# Altium footprint library Bootcamp PcbLib.PcbLib: 16 footprints
Each footprint in its own frame and in the unit in brackets; x right, y up, seen from the top. Pads: shape width x height; smd on the part's side, far side on the other; paste and mask are expansions set on the pad; w line width, h text height; cw(c..) or ccw(c..) is an arc to the next point about the centre after c.
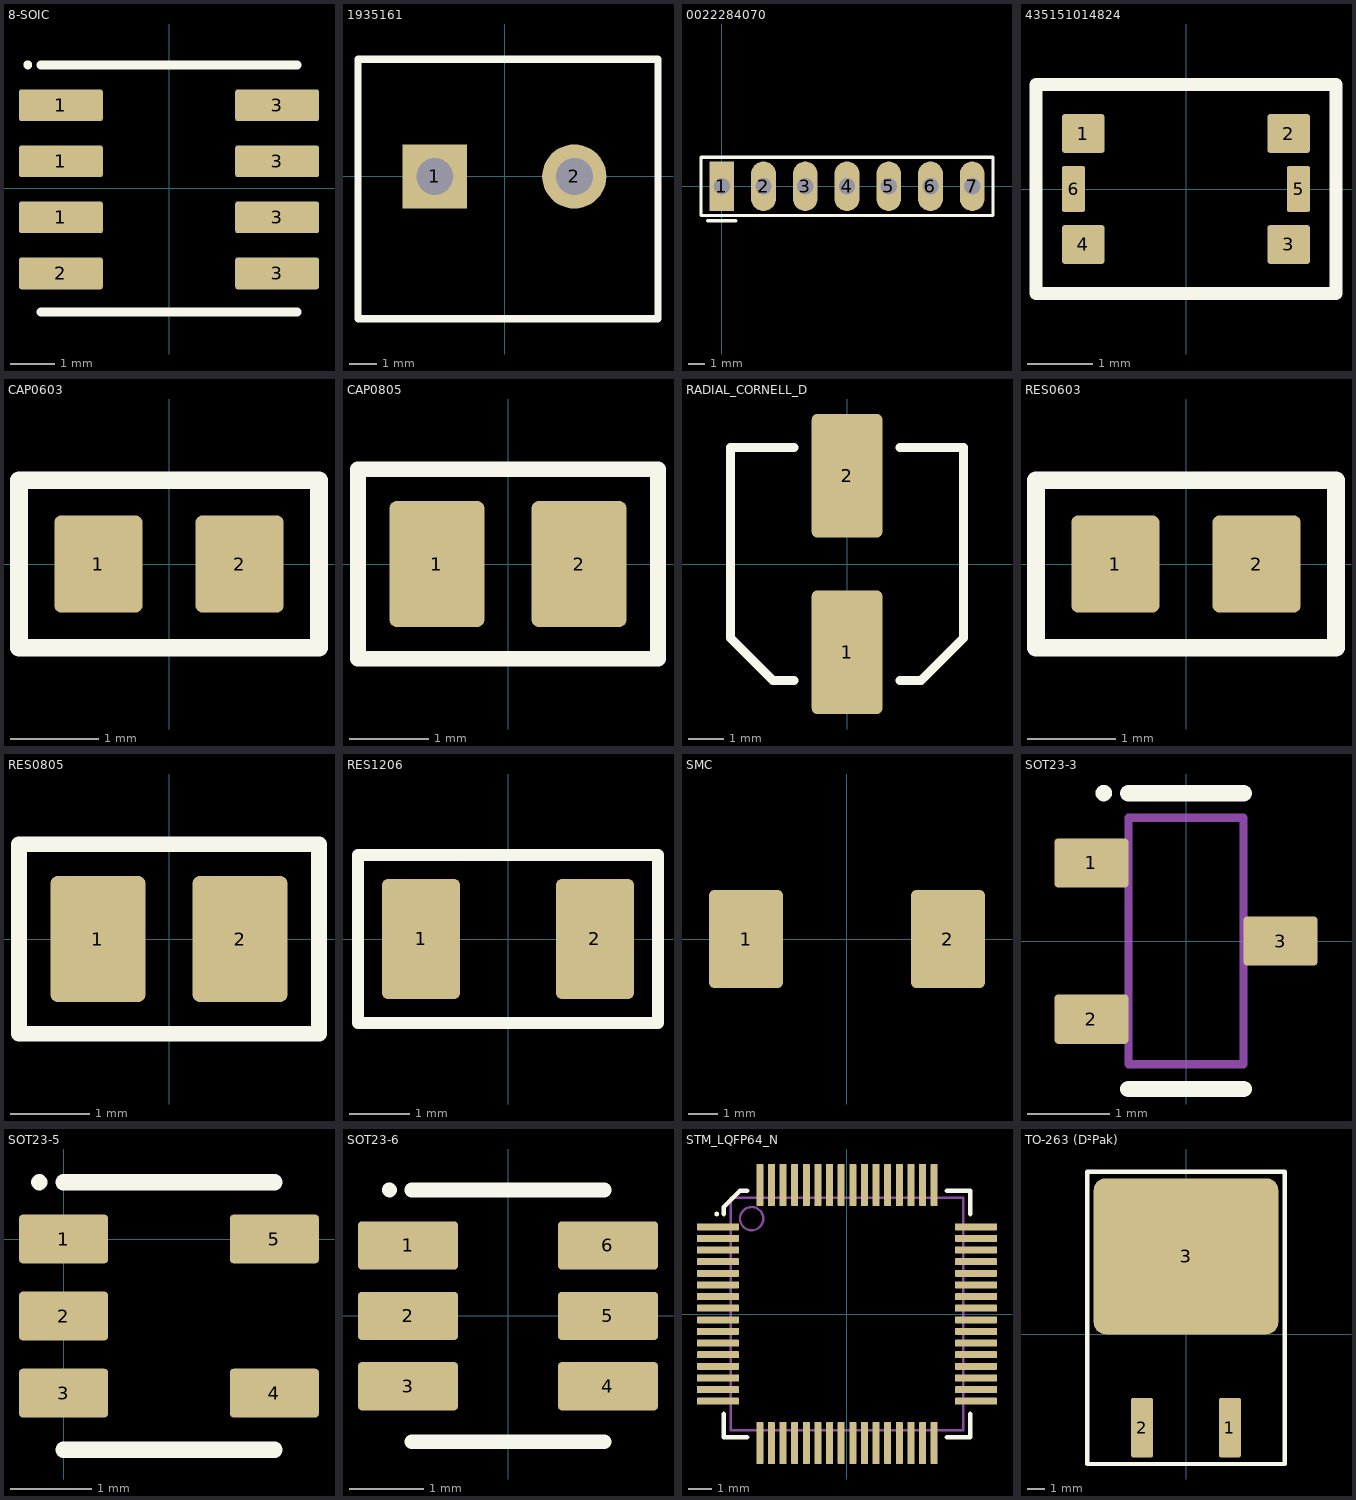
[diagram p0: the footprints below, top view; thin cyan lines are the x and y axes]

## 8-SOIC [mm] "8-SOIC (0.154\", 3.90mm Width)"
pads (8):
  rrect15% 1.9x0.72 smd: 1(-2.45,-0.656) 1(-2.45,0.614) 1(-2.45,1.884) 2(-2.45,-1.926) 3(2.45,-1.926) 3(2.45,-0.656) 3(2.45,0.614) 3(2.45,1.884)
Top Overlay:
  circle w0.1: c-3.2,2.8 r0.05
  lines w0.2: -2.9,-2.8 2.9,-2.8 ; -2.9,2.8 2.9,2.8
3D body "User Library-SOIC-8-1.step": height 1.75, standoff 0, extent -3,-2.45 3,2.45

## 1935161 [mm] "TERM BLK 2POS SIDE ENTRY 5MM PCB"
pads (2):
  rect 2.3x2.3 hole 1.325: 1(-2.5,0)
  round 2.3 hole 1.325: 2(2.5,0)
Top Overlay:
  lines w0.254: -5.25,-5.1 5.5,-5.1 5.5,4.2 -5.25,4.2 -5.25,-5.1
3D body "1935161--3DModel-STEP-56544.STEP": height 11.41, standoff -3.49, extent -5.066,-4.936 5.334,4.064

## 0022284070 [mm] "CONN HEADER VERT 7POS 2.54MM"
pads (7):
  rect 1.508x3.016 hole 1: 1(0,0)
  oval 1.508x3.016 hole 1: 2(2.54,0) 3(5.08,0) 4(7.62,0) 5(10.16,0) 6(12.7,0) 7(15.24,0)
Top Overlay:
  lines w0.2: -0.85,-2.1 0.85,-2.1 ; -1.27,-1.778 -1.27,1.778 16.51,1.778 16.51,-1.778 11.913,-1.778 -1.27,-1.778
3D body "0022032071.STEP": height 10.8, standoff -3.42, extent -1.145,-1.17 16.385,1.17

## 435151014824 [mm]
pads (6):
  rrect15% 0.65x0.6 smd: 1(-1.575,0.85) 2(1.575,0.85) 3(1.575,-0.85) 4(-1.575,-0.85)
  rrect15% 0.35x0.7 smd: 5(1.725,0) 6(-1.725,0)
Top Overlay:
  lines w0.2: -2.3,-1.6 2.3,-1.6 2.3,1.6 -2.3,1.6 -2.3,-1.6
3D body "PUSH.step": height 1.6, standoff 0, extent -1.75,-1.35 1.75,1.35

## CAP0603 [mm] "CAP0603 SMD"
height 0.55
pads (2):
  rrect15% 1x1.1 smd: 1(-0.8,0) 2(0.8,0)
Top Overlay:
  lines w0.2: -1.7,-0.95 -1.7,0.95 1.7,0.95 1.7,-0.95 -1.7,-0.95
Mechanical 13:
  lines w0.1: -0.875,-0.475 -0.875,0.475 ; 0.875,-0.475 0.875,0.475
3D body: height 0.55, standoff 0, extent 0.525,-0.475 0.875,0.475
3D body: height 0.55, standoff 0, extent -0.875,-0.475 -0.525,0.475
3D body "c0603c101j1gactu.stp": height 0.87, standoff 0, extent -0.875,-0.475 0.875,0.475

## CAP0805 [mm] "CAP0805 SMD"
pads (2):
  rrect15% 1.2x1.6 smd: 1(-0.9,0) 2(0.9,0)
Top Overlay:
  lines w0.2: -1.9,-1.2 -1.9,1.2 1.9,1.2 1.9,-1.2 -1.9,-1.2
3D body "CAP0805.stp": height 1.39, standoff -0.01, extent -1.1,-0.725 1.1,0.725

## RADIAL_CORNELL_D [mm] "Size D Radial SMD Capacitor"
pads (2):
  rrect15% 2x3.5 smd: 1(0,-2.5) 2(0,2.5)
Top Overlay:
  lines w0.254: -1.5,-3.3 -2.1,-3.3 -3.3,-2.1 -3.3,3.3 -1.5,3.3 ; 1.5,-3.3 2.1,-3.3 3.3,-2.1 3.3,3.3 1.5,3.3
3D body "RADIAL_CORNELL_D.STEP": height 5.9, standoff 0, extent -3.3,-3.625 3.3,3.675

## RES0603 [mm] "RES0603 SMD"
height 0.6
pads (2):
  rrect15% 1x1.1 smd: 1(-0.8,0) 2(0.8,0)
Top Overlay:
  lines w0.2: -1.7,-0.95 1.7,-0.95 1.7,0.95 -1.7,0.95 -1.7,-0.95
3D body "0603.step": height 0.46, standoff 0.01, extent -0.8,-0.4 0.8,0.4

## RES0805 [mm] "RES0805 SMD"
height 0.5
pads (2):
  rrect15% 1.2x1.6 smd: 1(-0.9,0) 2(0.9,0)
Top Overlay:
  lines w0.2: -1.9,-1.2 -1.9,1.2 1.9,1.2 1.9,-1.2 -1.9,-1.2
3D body "0805 resistor.step": height 0.61, standoff 0.01, extent -1,-0.625 1,0.625

## RES1206 [mm] "RES1206 SMD"
height 0.75
pads (2):
  rrect15% 1.3x2 smd: 1(-1.45,0) 2(1.45,0)
Top Overlay:
  lines w0.2: -2.5,-1.4 -2.5,1.4 2.5,1.4 2.5,-1.4 -2.5,-1.4
3D body "1206 resistor.step": height 0.61, standoff 0.01, extent -1.6,-0.8 1.6,0.8

## SMC [mm]
pads (2):
  rrect15% 2.5x3.3 smd: 1(-3.4,0) 2(3.4,0)
3D body "S3J-13-F.stp": height 2.5, standoff 0, extent -3.97,-2.953 3.97,2.953

## SOT23-3 [mm] "SOT23, 3-Leads, Body 2.90x2.30mm, Pitch 0.95mm, IPC Medium Density"
height 1.1
pads (3):
  rrect15% 0.9x0.6 smd: 1(-1.15,0.95) 2(-1.15,-0.95) 3(1.15,0)
Top Overlay:
  circle w0.1: c-1,1.8 r0.05
  lines w0.2: -0.7,-1.8 0.7,-1.8 ; -0.7,1.8 0.7,1.8
Mechanical 1:
  lines w0.1: -0.7,-1.5 0.7,-1.5 0.7,1.5 -0.7,1.5 -0.7,-1.5
3D body "SOT95P230X110-3N.step": height 1.1, standoff 0, extent -1.3,-1.5 1.3,1.5

## SOT23-5 [mm] "SOT23-5"
height 1.1
pads (5):
  rrect15% 1.1x0.6 smd: 1(0,0) 2(0,-0.95) 3(0,-1.9) 4(2.6,-1.9) 5(2.6,0)
Top Overlay:
  circle w0.1: c-0.3,0.7 r0.05
  lines w0.2: 0,-2.6 2.6,-2.6 ; 0,0.7 2.6,0.7
3D body "SN74AHC1G02DBVT.stp": height 1.2, standoff 0, extent -0.1,-2.4 2.7,0.5

## SOT23-6 [mm] "SOT23-6"
height 1.1
pads (6):
  rrect15% 1.35x0.65 smd mask+0.102: 1(-1.35,0.95) 2(-1.35,0) 3(-1.35,-0.95) 4(1.35,-0.95) 5(1.35,0) 6(1.35,0.95)
Top Overlay:
  circle w0.1: c-1.6,1.7 r0.05
  lines w0.2: -1.3,-1.7 1.3,-1.7 ; -1.3,1.7 1.3,1.7
3D body "SOT-23-6.step": height 1.45, standoff 0, extent -1.4,-1.45 1.4,1.45

## STM_LQFP64_N [mm] "Thin QFP, 64-Leads, Body 10x10mm, Pitch 0.5mm, IPC Medium Density"
height 1.6
pads (64):
  rrect15% 1.8x0.3 smd mask+0.05: 1(-5.55,3.75) 2(-5.55,3.25) 3(-5.55,2.75) 4(-5.55,2.25) 5(-5.55,1.75) 6(-5.55,1.25) 7(-5.55,0.75) 8(-5.55,0.25) 9(-5.55,-0.25) 10(-5.55,-0.75) 11(-5.55,-1.25) 12(-5.55,-1.75) 13(-5.55,-2.25) 14(-5.55,-2.75) 15(-5.55,-3.25) 16(-5.55,-3.75) 33(5.55,-3.75) 34(5.55,-3.25) 35(5.55,-2.75) 36(5.55,-2.25) 37(5.55,-1.75) 38(5.55,-1.25) 39(5.55,-0.75) 40(5.55,-0.25) 41(5.55,0.25) 42(5.55,0.75) 43(5.55,1.25) 44(5.55,1.75) 45(5.55,2.25) 46(5.55,2.75) 47(5.55,3.25) 48(5.55,3.75)
  rrect15% 0.3x1.8 smd mask+0.05: 17(-3.75,-5.55) 18(-3.25,-5.55) 19(-2.75,-5.55) 20(-2.25,-5.55) 21(-1.75,-5.55) 22(-1.25,-5.55) 23(-0.75,-5.55) 24(-0.25,-5.55) 25(0.25,-5.55) 26(0.75,-5.55) 27(1.25,-5.55) 28(1.75,-5.55) 29(2.25,-5.55) 30(2.75,-5.55) 31(3.25,-5.55) 32(3.75,-5.55) 49(3.75,5.55) 50(3.25,5.55) 51(2.75,5.55) 52(2.25,5.55) 53(1.75,5.55) 54(1.25,5.55) 55(0.75,5.55) 56(0.25,5.55) 57(-0.25,5.55) 58(-0.75,5.55) 59(-1.25,5.55) 60(-1.75,5.55) 61(-2.25,5.55) 62(-2.75,5.55) 63(-3.25,5.55) 64(-3.75,5.55)
Top Overlay:
  circle w0.1: c-5.6,4.3 r0.05
  lines w0.2: -5.3,-4.3 -5.3,-5.3 -4.3,-5.3 ; -5.3,4.3 -5.3,4.6 -4.6,5.3 -4.3,5.3 ; 4.3,-5.3 5.3,-5.3 5.3,-4.3 ; 4.3,5.3 5.3,5.3 5.3,4.3
Mechanical 1:
  circle w0.1: c-4.1,4.1 r0.5
  lines w0.1: -5,-5 5,-5 5,5 -5,5 -5,-5
3D body "LQFP64.step": height 1.56, standoff 0, extent -6,-5.99 6,6.01

## TO-263 (D²Pak) [mil] "TO-263-3, D²Pak (2 Leads + Tab), TO-263AB"
pads (3):
  rrect15% 49.49x135 smd: 1(100,-212.52) 2(-100,-212.5)
  rrect15% 420x355 smd: 3(0,177.5)
Top Overlay:
  lines w10: -224.41,-295.28 224.41,-295.28 224.41,370.08 -224.41,370.08 -224.41,-295.28